# Altium footprint library My.PcbLib: 5 footprints
Each footprint in its own frame and in the unit in brackets; x right, y up, seen from the top. Pads: shape width x height; smd on the part's side, far side on the other; paste and mask are expansions set on the pad; w line width, h text height; cw(c..) or ccw(c..) is an arc to the next point about the centre after c.
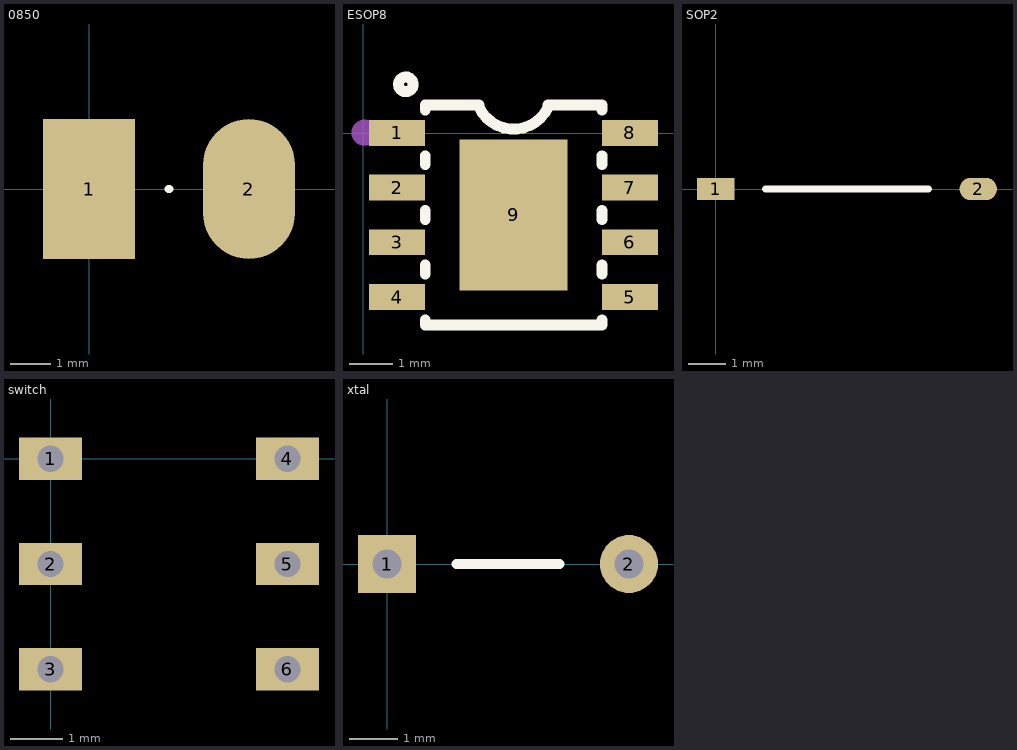
[diagram p0: the footprints below, top view; thin cyan lines are the x and y axes]

## 0850 [mm]
pads (2):
  rect 2.3x3.5 smd: 1(0,0)
  oval 2.3x3.5 smd: 2(4,0)
Top Overlay:
  lines w0.2: 1.985,0 2.015,0 2,0 1.985,0

## ESOP8 [mm]
pads (9):
  rect 1.3x0.6 smd: 1(0.783,0.01) 2(0.783,-1.26) 3(0.783,-2.53) 4(0.783,-3.8) 5(6.183,-3.8) 6(6.183,-2.53) 7(6.183,-1.26) 8(6.183,0.01)
  rect 2.5x3.5 smd: 9(3.483,-1.895)
Top Overlay:
  circle w0.254: c0.983,1.135 r0.17
  lines w0.254: 1.433,-4.331 1.433,-4.445 5.533,-4.445 5.533,-4.331 ; 1.433,-3.269 1.433,-3.061 ; 1.433,-1.999 1.433,-1.791 ; 1.433,-0.729 1.433,-0.521 ; 1.433,0.541 1.433,0.655 2.683,0.655 ; 2.683,0.605 ccw(c3.483,0.98) 4.283,0.605 ; 4.283,0.655 5.533,0.655 5.533,0.541 ; 5.533,-3.269 5.533,-3.061 ; 5.533,-1.999 5.533,-1.791 ; 5.533,-0.729 5.533,-0.521
Mechanical 15:
  circle w0.3: c0.023,0.015 r0.15

## SOP2 [mm]
pads (2):
  rect 1x0.6 smd: 1(0,0)
  oval 1x0.6 smd: 2(7,0)
Top Overlay:
  lines w0.2: 1.335,0 3.5,0 5.665,0 1.335,0

## switch [mm]
pads (6):
  rect 1.2x0.8 hole 0.5 square: 1(0,0) 2(0,-2) 3(0,-4) 4(4.5,0) 5(4.5,-2) 6(4.5,-4)

## xtal [mm]
pads (2):
  rect 1.2x1.2 hole 0.6: 1(0,0)
  round 1.2 hole 0.6: 2(5,0)
Top Overlay:
  lines w0.2: 1.435,0 3.565,0 2.5,0 1.435,0